# Altium schematic symbol library BC817-25.SchLib: 1 symbol
Pins are listed as number, name and electrical type; pins without a type are passive.

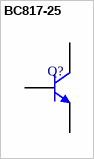
[diagram p0: symbol BC817-25]

## BC817-25
designator Q?
NPN General Purpose Amplifier
pins: 1 B, 2 E, 3 C